# EAGLE library part FDC6420C (library gost_transistors)
FDC6420C SOT23-6 20V N & P-Channel MOSFETs
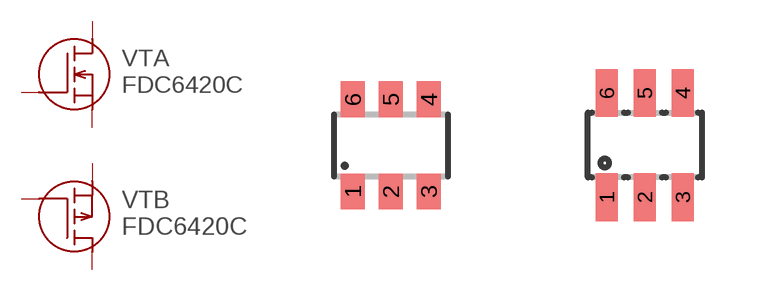
[diagram p3: symbol with the pads of SOT23-6; footprints SOT23-6, SOT23-6L]

Designator prefix VT; gates A=N-MOSFET B=P-MOSFET

## FDC6420C  [SOT23-6]
1  A:G  pas
2  B:S  pas
3  B:G  pas
4  B:D  pas
5  A:S  pas
6  A:D  pas

## FDC6420CL  [SOT23-6L]
Pads as for SOT23-6

## Footprint SOT23-6 (pad centres in mm)
Small Outline Transistor 6 lead
smd 0.6 x 0.9: 1 -0.95,-1.15; 2 0,-1.15; 3 0.95,-1.15; 4 0.95,1.15; 5 0,1.15; 6 -0.95,1.15

## Footprint SOT23-6L (pad centres in mm)
Small Outline Transistor
smd 0.55 x 1.2: 1 -0.95,-1.3; 2 0,-1.3; 3 0.95,-1.3; 4 0.95,1.3; 5 0,1.3; 6 -0.95,1.3